# Altium footprint library SON50P200X200X80-8N.PcbLib: 1 footprints
Each footprint in its own frame and in the unit in brackets; x right, y up, seen from the top. Pads: shape width x height; smd on the part's side, far side on the other; paste and mask are expansions set on the pad; w line width, h text height; cw(c..) or ccw(c..) is an arc to the next point about the centre after c.
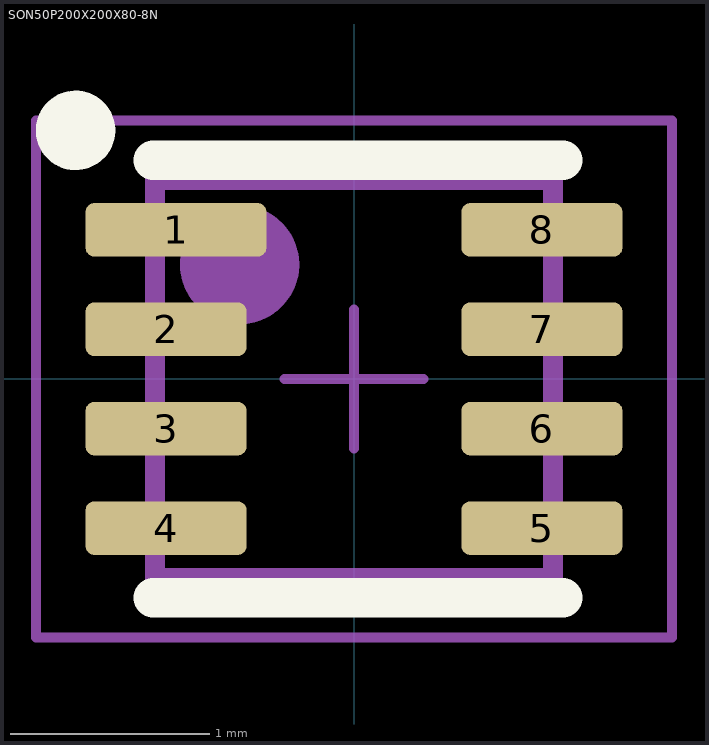
[diagram p0: the footprint, top view; thin cyan lines are the x and y axes]

## SON50P200X200X80-8N [mm] "Small Outline No-Lead (SON), 0.50 mm pitch; 8 pin, 2.00 mm L X 2.00 mm W X 0.80 mm H body"
height 0.8
pads (8):
  rrect33% 0.91x0.27 smd: 1(-0.895,0.75)
  rrect33% 0.81x0.27 smd: 2(-0.945,0.25) 3(-0.945,-0.25) 4(-0.945,-0.75) 5(0.945,-0.75) 6(0.945,-0.25) 7(0.945,0.25) 8(0.945,0.75)
Top Overlay:
  circle w0.2: c-1.4,1.25 r0.1
  lines w0.2: -1.01,-1.1 1.05,-1.1 ; -1.01,1.1 1.05,1.1
Top Assembly:
  circle w0.3: c-0.575,0.575 r0.15
  lines w0.1: -1,-1 1,-1 1,1 -1,1 -1,-1
Top Courtyard:
  lines w0.05: -1.6,-1.3 1.6,-1.3 1.6,1.3 -1.6,1.3 -1.6,-1.3
Top Designator:
  text ".Designator" at 0,0 h1
Top Component Center:
  lines w0.05: -0.35,0 0.35,0 ; 0,-0.35 0,0.35
3D body "SON50P200X200X80-8.STEP": height 0.8, standoff 0, extent -1.05,-1 1.05,1